# Altium footprint library Optoelectronic.PCBLIB: 42 footprints (part 3 of 3)
Each footprint in its own frame and in the unit in brackets; x right, y up, seen from the top. Pads: shape width x height; smd on the part's side, far side on the other; paste and mask are expansions set on the pad; w line width, h text height; cw(c..) or ccw(c..) is an arc to the next point about the centre after c.
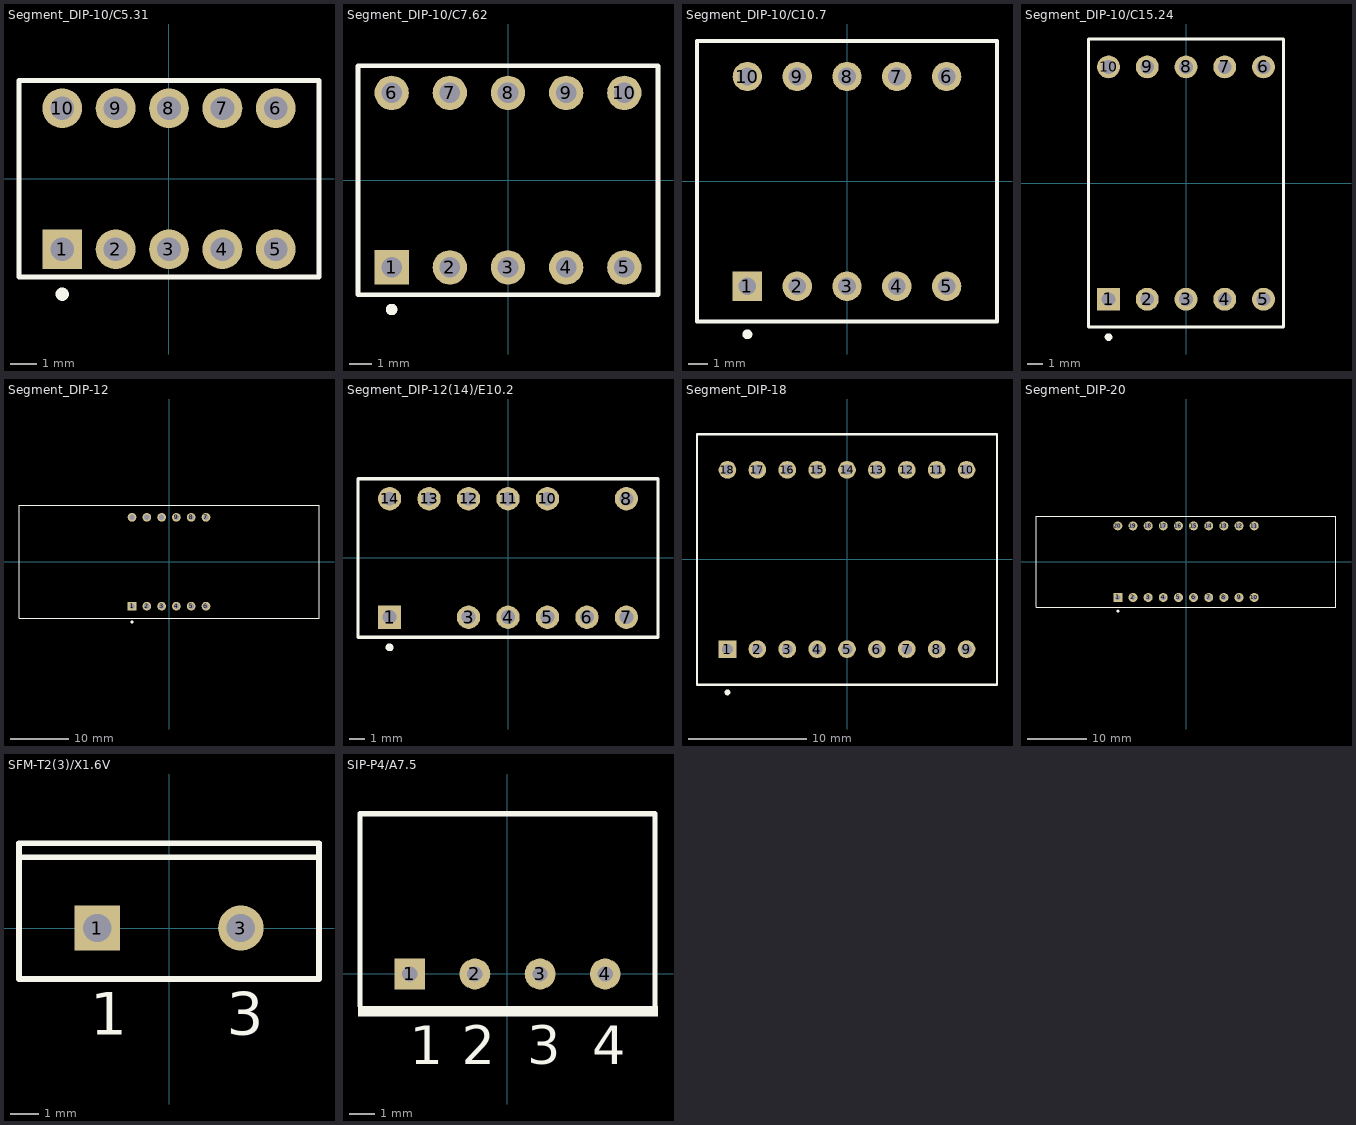
[diagram p2: the footprints below, top view; thin cyan lines are the x and y axes]

## Segment_DIP-10/C5.31 [mm]
pads (10):
  rect 1.5x1.5 hole 0.9: 1(-4.02,-2.655)
  round 1.5 hole 0.9: 2(-2.01,-2.655) 3(0,-2.655) 4(2.01,-2.655) 5(4.02,-2.655) 6(4.02,2.655) 7(2.01,2.655) 8(0,2.655) 9(-2.01,2.655) 10(-4.02,2.655)
Top Overlay:
  circle w0.25: c-4.02,-4.35 r0.125
  lines w0.2: -5.65,-3.7 -5.65,3.7 5.65,3.7 5.65,-3.7 -5.65,-3.7

## Segment_DIP-10/C7.62 [mm]
pads (10):
  rect 1.5x1.5 hole 0.9: 1(-5.08,-3.81)
  round 1.5 hole 0.9: 2(-2.54,-3.81) 3(0,-3.81) 4(2.54,-3.81) 5(5.08,-3.81) 6(-5.08,3.81) 7(-2.54,3.81) 8(0,3.81) 9(2.54,3.81) 10(5.08,3.81)
Top Overlay:
  circle w0.25: c-5.08,-5.65 r0.125
  lines w0.2: -6.55,-5 -6.55,5 6.55,5 6.55,-5 -6.55,-5

## Segment_DIP-10/C10.7 [mm]
pads (10):
  rect 1.5x1.5 hole 0.9: 1(-5.08,-5.35)
  round 1.5 hole 0.9: 2(-2.54,-5.35) 3(0,-5.35) 4(2.54,-5.35) 5(5.08,-5.35) 6(5.08,5.35) 7(2.54,5.35) 8(0,5.35) 9(-2.54,5.35) 10(-5.08,5.35)
Top Overlay:
  circle w0.25: c-5.08,-7.8 r0.125
  lines w0.2: -7.65,-7.15 -7.65,-0.635 -7.65,7.15 7.65,7.15 7.65,-7.15 -7.65,-7.15

## Segment_DIP-10/C15.24 [mm]
pads (10):
  rect 1.5x1.5 hole 0.9: 1(-5.08,-7.62)
  round 1.5 hole 0.9: 2(-2.54,-7.62) 3(0,-7.62) 4(2.54,-7.62) 5(5.08,-7.62) 6(5.08,7.62) 7(2.54,7.62) 8(0,7.62) 9(-2.54,7.62) 10(-5.08,7.62)
Top Overlay:
  circle w0.25: c-5.08,-10.1 r0.125
  lines w0.2: -6.4,-9.45 -6.4,9.45 6.4,9.45 6.4,-9.45 -6.4,-9.45

## Segment_DIP-12 [mm]
pads (12):
  rect 1.5x1.5 hole 0.9: 1(-6.35,-7.62)
  round 1.5 hole 0.9: 2(-3.81,-7.62) 3(-1.27,-7.62) 4(1.27,-7.62) 5(3.81,-7.62) 6(6.35,-7.62) 7(6.35,7.62) 8(3.81,7.62) 9(1.27,7.62) 10(-1.27,7.62) 11(-3.81,7.62) 12(-6.35,7.62)
Top Overlay:
  circle w0.25: c-6.35,-10.35 r0.125
  lines w0.2: -25.75,-9.7 25.75,-9.7 25.75,9.7 -25.75,9.7 -25.75,-9.7

## Segment_DIP-12(14)/E10.2 [mm]
pads (12):
  rect 1.5x1.5 hole 0.9: 1(-7.62,-3.81)
  round 1.5 hole 0.9: 3(-2.54,-3.81) 4(0,-3.81) 5(2.54,-3.81) 6(5.08,-3.81) 7(7.62,-3.81) 8(7.62,3.81) 10(2.54,3.81) 11(0,3.81) 12(-2.54,3.81) 13(-5.08,3.81) 14(-7.62,3.81)
Top Overlay:
  circle w0.25: c-7.62,-5.75 r0.125
  lines w0.2: -9.65,-5.1 -9.65,5.1 9.65,5.1 9.65,-5.1 -9.65,-5.1

## Segment_DIP-18 [mm]
pads (18):
  rect 1.5x1.5 hole 0.9: 1(-10.16,-7.62)
  round 1.5 hole 0.9: 2(-7.62,-7.62) 3(-5.08,-7.62) 4(-2.54,-7.62) 5(0,-7.62) 6(2.54,-7.62) 7(5.08,-7.62) 8(7.62,-7.62) 9(10.16,-7.62) 10(10.16,7.62) 11(7.62,7.62) 12(5.08,7.62) 13(2.54,7.62) 14(0,7.62) 15(-2.54,7.62) 16(-5.08,7.62) 17(-7.62,7.62) 18(-10.16,7.62)
Top Overlay:
  circle w0.25: c-10.16,-11.3 r0.125
  lines w0.2: -12.75,-10.65 -12.75,10.65 12.75,10.65 12.75,-10.65 -12.75,-10.65

## Segment_DIP-20 [mm]
pads (20):
  rect 1.5x1.5 hole 0.9: 1(-11.43,-6)
  round 1.5 hole 0.9: 2(-8.89,-6) 3(-6.35,-6) 4(-3.81,-6) 5(-1.27,-6) 6(1.27,-6) 7(3.81,-6) 8(6.35,-6) 9(8.89,-6) 10(11.43,-6) 11(11.43,6) 12(8.89,6) 13(6.35,6) 14(3.81,6) 15(1.27,6) 16(-1.27,6) 17(-3.81,6) 18(-6.35,6) 19(-8.89,6) 20(-11.43,6)
Top Overlay:
  circle w0.25: c-11.43,-8.3 r0.125
  lines w0.2: -25.15,-7.65 -25.15,7.65 25.15,7.65 25.15,-7.65 -25.15,-7.65

## SFM-T2(3)/X1.6V [mm] "TO, Thru-Hole, Vertical, Heatsink Mounted; 3 In-Line Leads (1 Absent); Pitch 2.54 mm"
height 19.3
pads (2):
  rect 1.6x1.6 hole 1: 1(-2.54,0)
  round 1.6 hole 1: 3(2.54,0)
Top Overlay:
  lines w0.2: -5.3,2.5 5.3,2.5 ; -5.3,-1.8 5.3,-1.8 5.3,3 -5.3,3 -5.3,-1.8
  text "3" at 2.04,-3.775 h1.5
  text "1" at -2.79,-3.775 h1.5

## SIP-P4/A7.5 [mm] "SIP; 4 Leads; Body 10 x 11.5 x 7.5 mm (typ); Pitch 2.54 mm"
height 10.6
pads (4):
  rect 1.2x1.2 hole 0.6: 1(-3.81,0)
  round 1.2 hole 0.6: 2(-1.27,0) 3(1.27,0) 4(3.81,0)
Top Overlay:
  rectangle: -5.83,-1.65 5.87,-1.25
  lines w0.2: -5.75,-1.25 -5.75,6.25 5.75,6.25 5.75,-1.25
  text "4" at 3.302,-3.52 h1.5
  text "3" at 0.762,-3.52 h1.5
  text "2" at -1.778,-3.52 h1.5
  text "1" at -3.81,-3.52 h1.5